# Altium schematic symbol library S-Contactor without auxiliary power.SCHLIB: 5 symbols
Pins are listed as number, name and electrical type; pins without a type are passive.

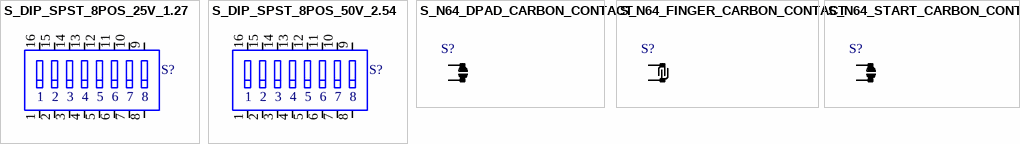
[diagram p0: symbols S_DIP_SPST_8POS_25V_1.27 to S_N64_START_CARBON_CONTACT]

## S_DIP_SPST_8POS_25V_1.27
designator S?  (value not drawn)
Supplier - Farnell: 2066433
footprint SMD_IKH-08_DIP
pins: 1, 2, 3, 4, 5, 6, 7, 8, 9, 10, 11, 12, 13, 14, 15, 16

## S_DIP_SPST_8POS_50V_2.54
designator S?  (value not drawn)
Supplier - Digikey: CT2198LPST-ND
footprint SMD_219-8LPST
pins: 1, 2, 3, 4, 5, 6, 7, 8, 9, 10, 11, 12, 13, 14, 15, 16

## S_N64_DPAD_CARBON_CONTACT
designator S?  (value not drawn)
N64 DPAD Carbon ink contact
footprint SMD_N64_DPAD_CARBON_CONTACT
footprint SMD_N64_START_CARBON_CONTACT
pins: 1, 2

## S_N64_FINGER_CARBON_CONTACT
designator S?  (value not drawn)
N64 DPAD Carbon ink contact
footprint SMD_N64_FINGER_CARBON_CONTACT
footprint SMD_N64_START_CARBON_CONTACT
pins: 1, 2

## S_N64_START_CARBON_CONTACT
designator S?  (value not drawn)
N64 DPAD Carbon ink contact
footprint SMD_N64_START_CARBON_CONTACT
pins: 1, 2